# Altium footprint library 集成块.PcbLib: 44 footprints (part 3 of 3)
Each footprint in its own frame and in the unit in brackets; x right, y up, seen from the top. Pads: shape width x height; smd on the part's side, far side on the other; paste and mask are expansions set on the pad; w line width, h text height; cw(c..) or ccw(c..) is an arc to the next point about the centre after c.
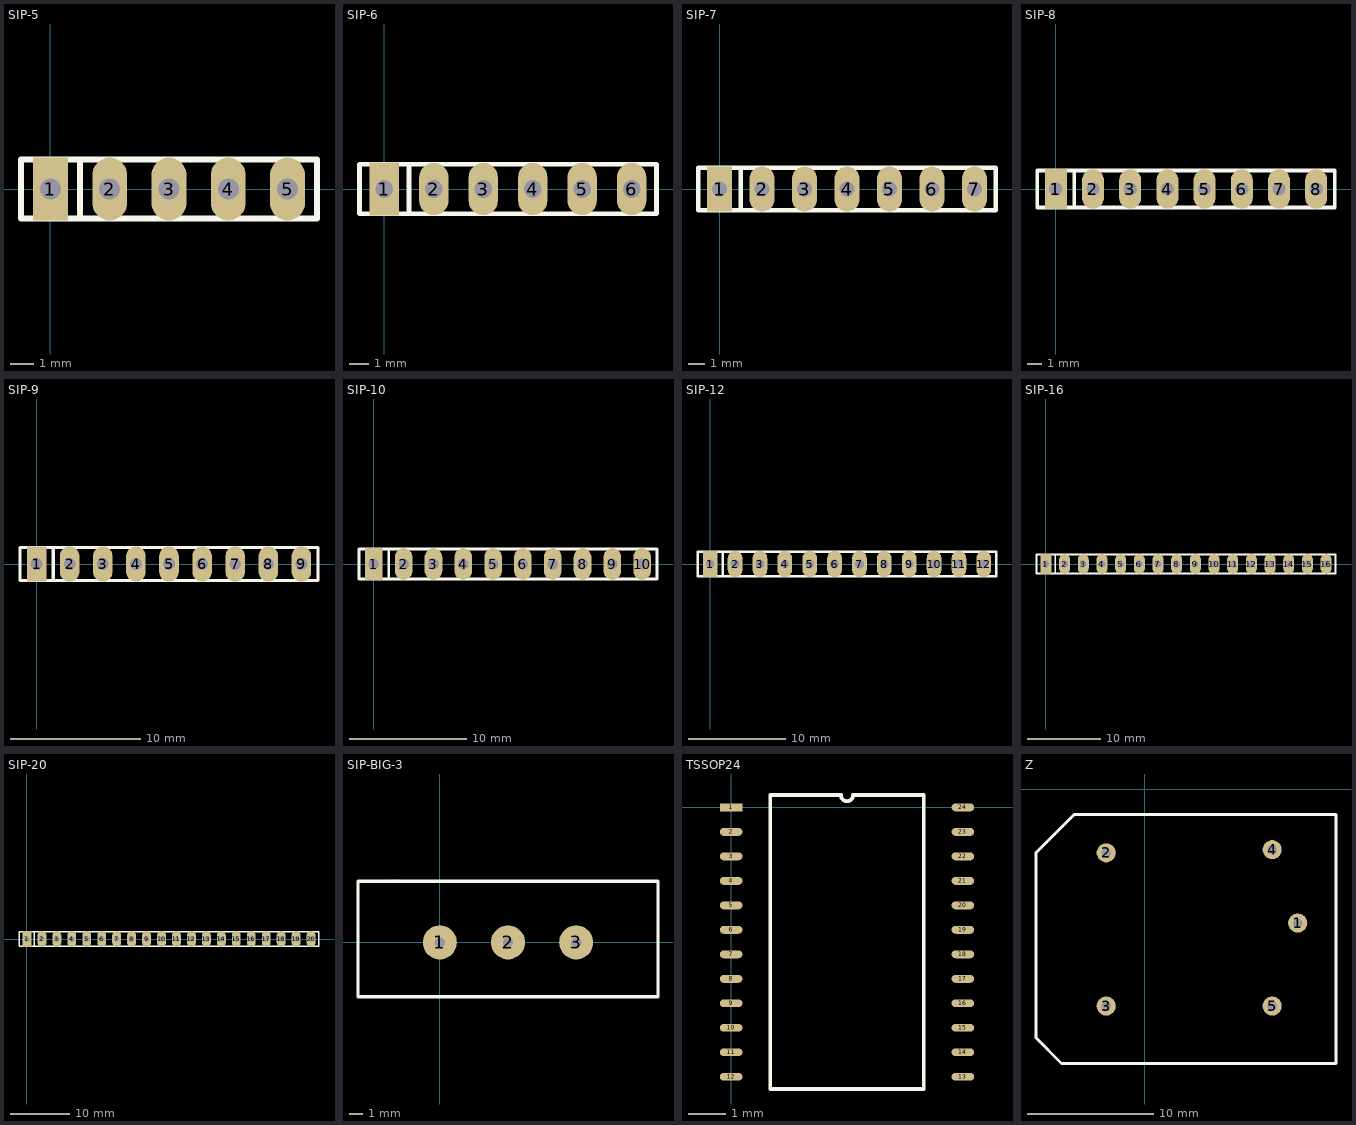
[diagram p2: the footprints below, top view; thin cyan lines are the x and y axes]

## SIP-5 [mm]
pads (5):
  rect 1.5x2.7 hole 0.9: 1(0,0)
  oval 1.5x2.7 hole 0.9: 2(2.54,0) 3(5.08,0) 4(7.62,0) 5(10.16,0)
TopOverlay:
  lines w0.254: 1.27,-1.27 1.27,1.27 ; -1.27,-1.27 -1.27,1.27 11.43,1.27 11.43,-1.27 -1.27,-1.27

## SIP-6 [mm]
pads (6):
  rect 1.5x2.7 hole 0.9: 1(0,0)
  oval 1.5x2.7 hole 0.9: 2(2.54,0) 3(5.08,0) 4(7.62,0) 5(10.16,0) 6(12.7,0)
TopOverlay:
  lines w0.254: 1.27,-1.27 1.27,1.27 ; -1.27,-1.27 13.97,-1.27 13.97,1.27 -1.27,1.27 -1.27,-1.27

## SIP-7 [mm]
pads (7):
  rect 1.5x2.7 hole 0.9: 1(0,0)
  oval 1.5x2.7 hole 0.9: 2(2.54,0) 3(5.08,0) 4(7.62,0) 5(10.16,0) 6(12.7,0) 7(15.24,0)
TopOverlay:
  lines w0.254: 1.27,-1.27 1.27,1.27 ; -1.27,-1.27 16.51,-1.27 16.51,1.27 -1.27,1.27 -1.27,-1.27

## SIP-8 [mm]
pads (8):
  rect 1.5x2.7 hole 0.9: 1(0,0)
  oval 1.5x2.7 hole 0.9: 2(2.54,0) 3(5.08,0) 4(7.62,0) 5(10.16,0) 6(12.7,0) 7(15.24,0) 8(17.78,0)
TopOverlay:
  lines w0.254: 1.27,-1.27 1.27,1.27 ; -1.27,-1.27 19.05,-1.27 19.05,1.27 -1.27,1.27 -1.27,-1.27

## SIP-9 [mm]
pads (9):
  rect 1.5x2.7 hole 0.9: 1(0,0)
  oval 1.5x2.7 hole 0.9: 2(2.54,0) 3(5.08,0) 4(7.62,0) 5(10.16,0) 6(12.7,0) 7(15.24,0) 8(17.78,0) 9(20.32,0)
TopOverlay:
  lines w0.254: 1.27,-1.27 1.27,1.27 ; -1.27,-1.27 -1.27,1.27 21.59,1.27 21.59,-1.27 -1.27,-1.27

## SIP-10 [mm]
pads (10):
  rect 1.5x2.7 hole 0.9: 1(0,0)
  oval 1.5x2.7 hole 0.9: 2(2.54,0) 3(5.08,0) 4(7.62,0) 5(10.16,0) 6(12.7,0) 7(15.24,0) 8(17.78,0) 9(20.32,0) 10(22.86,0)
TopOverlay:
  lines w0.254: 1.27,-1.27 1.27,1.27 ; -1.27,-1.27 24.13,-1.27 24.13,1.27 -1.27,1.27 -1.27,-1.27

## SIP-12 [mm]
pads (12):
  rect 1.5x2.7 hole 0.9: 1(0,0)
  oval 1.5x2.7 hole 0.9: 2(2.54,0) 3(5.08,0) 4(7.62,0) 5(10.16,0) 6(12.7,0) 7(15.24,0) 8(17.78,0) 9(20.32,0) 10(22.86,0) 11(25.4,0) 12(27.94,0)
TopOverlay:
  lines w0.254: 1.27,-1.27 1.27,1.27 ; -1.27,-1.27 -1.27,1.27 29.21,1.27 29.21,-1.27 -1.27,-1.27

## SIP-16 [mm]
pads (16):
  rect 1.5x2.7 hole 0.9: 1(0,0)
  oval 1.5x2.7 hole 0.9: 2(2.54,0) 3(5.08,0) 4(7.62,0) 5(10.16,0) 6(12.7,0) 7(15.24,0) 8(17.78,0) 9(20.32,0) 10(22.86,0) 11(25.4,0) 12(27.94,0) 13(30.48,0) 14(33.02,0) 15(35.56,0) 16(38.1,0)
TopOverlay:
  lines w0.254: 1.27,-1.27 1.27,1.27 ; -1.27,-1.27 39.37,-1.27 39.37,1.27 -1.27,1.27 -1.27,-1.27

## SIP-20 [mm]
pads (20):
  rect 1.5x2.7 hole 0.9: 1(0,0)
  oval 1.5x2.7 hole 0.9: 2(2.54,0) 3(5.08,0) 4(7.62,0) 5(10.16,0) 6(12.7,0) 7(15.24,0) 8(17.78,0) 9(20.32,0) 10(22.86,0) 11(25.4,0) 12(27.94,0) 13(30.48,0) 14(33.02,0) 15(35.56,0) 16(38.1,0) 17(40.64,0) 18(43.18,0) 19(45.72,0) 20(48.26,0)
TopOverlay:
  lines w0.254: 1.27,-1.27 1.27,1.27 ; -1.27,-1.27 49.53,-1.27 49.53,1.27 -1.27,1.27 -1.27,-1.27

## SIP-BIG-3 [mil]
pads (3):
  round 100 hole 30: 1(0,0) 2(200,0) 3(400,0)
TopLayer:
  lines w10: -140,180 -120,180
TopOverlay:
  lines w10: -160,-160 -140,-160 640,-160 640,180 -160,180 ; -120,180 -240,180 -240,-160 -60,-160

## TSSOP24 [mm]
pads (24):
  rect 0.6x0.21 smd: 1(0,0)
  oval 0.6x0.21 smd: 2(0,-0.65) 3(0,-1.3) 4(0,-1.95) 5(0,-2.6) 6(0,-3.25) 7(0,-3.9) 8(0,-4.55) 9(0,-5.2) 10(0,-5.85) 11(0,-6.5) 12(0,-7.15) 13(6.15,-7.15) 14(6.15,-6.5) 15(6.15,-5.85) 16(6.15,-5.2) 17(6.15,-4.55) 18(6.15,-3.9) 19(6.15,-3.25) 20(6.15,-2.6) 21(6.15,-1.95) 22(6.15,-1.3) 23(6.15,-0.65) 24(6.15,0)
TopOverlay:
  lines w0.1: 1.035,-7.475 5.115,-7.475 5.115,0.325 3.238,0.325 cw(c3.075,0.325) 2.912,0.325 1.035,0.325 1.035,-7.475

## Z [mil]
pads (5):
  round 60 hole 30: 1(480,-420) 2(-120,-200) 3(-120,-680) 4(400,-190) 5(400,-680)
TopOverlay:
  lines w10: -340,-780 -260,-860 600,-860 600,-80 -220,-80 -340,-200 -340,-280 -340,-780